# Altium footprint library Transistors.PcbLib: 6 footprints
Each footprint in its own frame and in the unit in brackets; x right, y up, seen from the top. Pads: shape width x height; smd on the part's side, far side on the other; paste and mask are expansions set on the pad; w line width, h text height; cw(c..) or ccw(c..) is an arc to the next point about the centre after c.
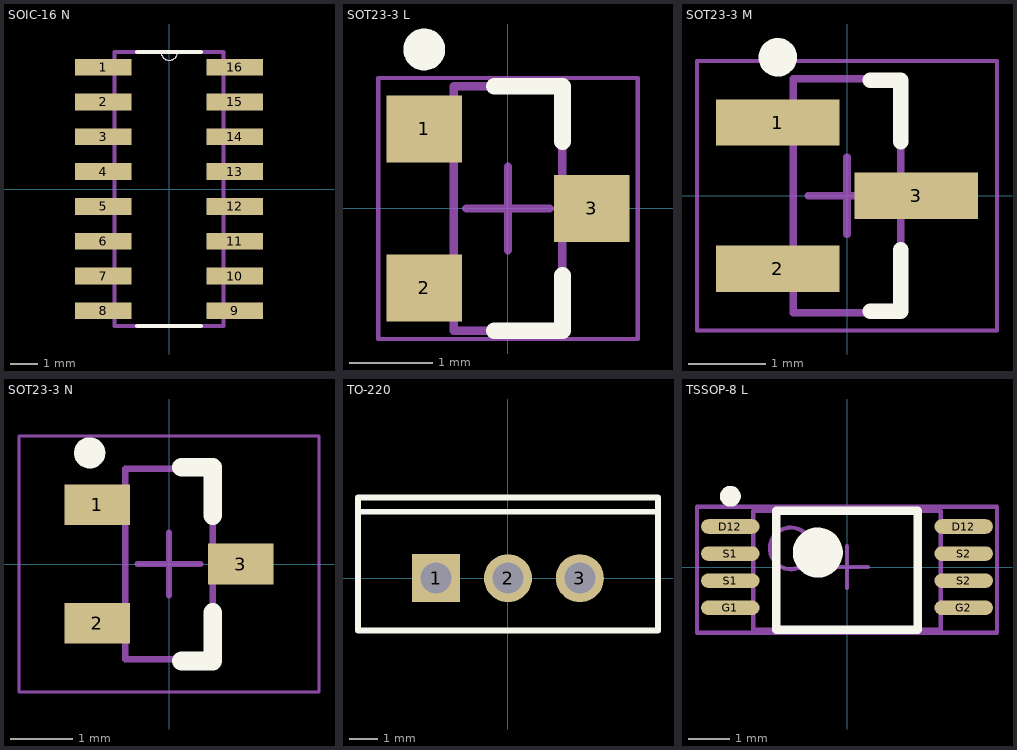
[diagram p0: the footprints below, top view; thin cyan lines are the x and y axes]

## SOIC-16 N [mil]
pads (16):
  rect 81x24 smd paste-1000 mask-1000: 1(-95,175) 2(-95,125) 3(-95,75) 4(-95,25) 5(-95,-25) 6(-95,-75) 7(-95,-125) 8(-95,-175) 9(94,-175) 10(94,-125) 11(94,-75) 12(94,-25) 13(94,25) 14(94,75) 15(94,125) 16(94,175)
Top Overlay:
  lines w0: -12,197 ccw(c0,197) 12,197
  lines w6: -46,-197 45,-197 ; -46,197 -12,197 12,197 45,197
Top Paste:
  region: -135.5,163 -54.5,163 -54.5,187 -135.5,187
  region: -135.5,113 -54.5,113 -54.5,137 -135.5,137
  region: -135.5,63 -54.5,63 -54.5,87 -135.5,87
  region: -135.5,13 -54.5,13 -54.5,37 -135.5,37
  region: -135.5,-37 -54.5,-37 -54.5,-13 -135.5,-13
  region: -135.5,-87 -54.5,-87 -54.5,-63 -135.5,-63
  region: -135.5,-137 -54.5,-137 -54.5,-113 -135.5,-113
  region: -135.5,-187 -54.5,-187 -54.5,-163 -135.5,-163
  region: 53.5,-187 134.5,-187 134.5,-163 53.5,-163
  region: 53.5,-137 134.5,-137 134.5,-113 53.5,-113
  region: 53.5,-87 134.5,-87 134.5,-63 53.5,-63
  region: 53.5,-37 134.5,-37 134.5,-13 53.5,-13
  region: 53.5,13 134.5,13 134.5,37 53.5,37
  region: 53.5,63 134.5,63 134.5,87 53.5,87
  region: 53.5,113 134.5,113 134.5,137 53.5,137
  region: 53.5,163 134.5,163 134.5,187 53.5,187
Top Solder:
  region: -139.44,159.06 -50.56,159.06 -50.56,190.94 -139.44,190.94
  region: -139.44,109.06 -50.56,109.06 -50.56,140.94 -139.44,140.94
  region: -139.44,59.06 -50.56,59.06 -50.56,90.94 -139.44,90.94
  region: -139.44,9.06 -50.56,9.06 -50.56,40.94 -139.44,40.94
  region: -139.44,-40.94 -50.56,-40.94 -50.56,-9.06 -139.44,-9.06
  region: -139.44,-90.94 -50.56,-90.94 -50.56,-59.06 -139.44,-59.06
  region: -139.44,-140.94 -50.56,-140.94 -50.56,-109.06 -139.44,-109.06
  region: -139.44,-190.94 -50.56,-190.94 -50.56,-159.06 -139.44,-159.06
  region: 49.56,-190.94 138.44,-190.94 138.44,-159.06 49.56,-159.06
  region: 49.56,-140.94 138.44,-140.94 138.44,-109.06 49.56,-109.06
  region: 49.56,-90.94 138.44,-90.94 138.44,-59.06 49.56,-59.06
  region: 49.56,-40.94 138.44,-40.94 138.44,-9.06 49.56,-9.06
  region: 49.56,9.06 138.44,9.06 138.44,40.94 49.56,40.94
  region: 49.56,59.06 138.44,59.06 138.44,90.94 49.56,90.94
  region: 49.56,109.06 138.44,109.06 138.44,140.94 49.56,140.94
  region: 49.56,159.06 138.44,159.06 138.44,190.94 49.56,190.94
Mechanical 1:
  lines w0: -12,197 ccw(c0,197) 12,197
  lines w6: -95,-175 -79,-175 ; -95,-125 -79,-125 ; -95,-75 -79,-75 ; -95,-25 -79,-25 ; -95,25 -79,25 ; -95,75 -79,75 ; -95,125 -79,125 ; -95,175 -79,175 ; 78,-175 94,-175 ; 78,-125 94,-125 ; 78,-75 94,-75 ; 78,-25 94,-25 ; 78,25 94,25 ; 78,75 94,75 ; 78,125 94,125 ; 78,175 94,175 ; -79,-197 78,-197 78,197 12,197 -12,197 -79,197 -79,-197
3D body "User Library-SOIC-16.step": height 55.14, standoff -0.02, extent -118.11,-194.88 118.12,194.88

## SOT23-3 L [mm] "SOT23, 3-Leads, Body 2.92x1.3mm, Pitch 0.95mm"
height 1.11
pads (3):
  rect 0.9x0.8 smd: 1(-1,0.95) 2(-1,-0.95) 3(1,0)
Top Overlay:
  circle w0.25: c-1,1.9 r0.125
  lines w0.2: -0.165,-1.46 0.65,-1.46 0.65,-0.8 ; -0.165,1.46 0.65,1.46 0.65,0.8
Mechanical 13:
  lines w0.1: -0.65,-1.46 0.65,-1.46 0.65,1.46 -0.65,1.46 -0.65,-1.46
Mechanical 15:
  lines w0.05: -1.55,-1.56 1.55,-1.56 1.55,1.56 -1.55,1.56 -1.55,-1.56
  lines w0.1: -0.5,0 0.5,0 ; 0,-0.5 0,0.5
3D body "CircuitWorks-SOT-23.step": height 1.11, standoff 0.01, extent -1.25,-1.5 1.25,1.5

## SOT23-3 M [mm] "SOT23, 3-Leads, Body 2.92x2.37mm, Pitch 0.95mm, IPC Medium Density"
height 1.12
pads (3):
  rect 1.6x0.6 smd: 1(-0.9,0.95) 2(-0.9,-0.95) 3(0.9,0)
Top Overlay:
  circle w0.25: c-0.9,1.8 r0.125
  lines w0.2: 0.3,-1.5 0.7,-1.5 0.7,-0.7 ; 0.3,1.5 0.7,1.5 0.7,0.7
Mechanical 13:
  lines w0.1: -0.7,-1.52 -0.7,1.52 0.7,1.52 0.7,-1.52 -0.7,-1.52
Mechanical 15:
  lines w0.05: -1.95,-1.75 -1.95,1.75 1.95,1.75 1.95,-1.75 -1.95,-1.75
  lines w0.1: -0.5,0 0.5,0 ; 0,-0.5 0,0.5
3D body "CircuitWorks-SOT-23.step": height 1.11, standoff 0.01, extent -1.25,-1.5 1.25,1.5

## SOT23-3 N [mm] "MCP1700T-3302E/TT"
height 1.12
pads (3):
  rect 1.05x0.65 smd: 1(-1.15,0.95) 2(-1.15,-0.95) 3(1.15,0)
Top Overlay:
  circle w0.25: c-1.27,1.778 r0.125
  lines w0.3: 0.2,-1.55 0.7,-1.55 0.7,-0.775 ; 0.2,1.55 0.7,1.55 0.7,0.775
Mechanical 13:
  lines w0.1: -0.7,-1.525 0.7,-1.525 0.7,1.525 -0.7,1.525 -0.7,-1.525
Mechanical 15:
  lines w0.05: -2.4,-2.05 2.4,-2.05 2.4,2.05 -2.4,2.05 -2.4,-2.05
  lines w0.1: -0.5,0 0.5,0 ; 0,-0.5 0,0.5
3D body "CircuitWorks-SOT-23.step": height 1.11, standoff 0.01, extent -1.123,-1.5 1.377,1.5

## TO-220 [mm] "TO, Thru-Hole, Vertical, Heatsink Mounted; 3 In-Line Leads; Pitch 2.54 mm"
height 21.4
pads (3):
  rect 1.7x1.7 hole 1.1: 1(-2.54,0)
  round 1.7 hole 1.1: 2(0,0) 3(2.54,0)
Top Overlay:
  lines w0.2: -5.3,2.35 5.3,2.35 ; -5.3,-1.85 5.3,-1.85 5.3,2.85 -5.3,2.85 -5.3,-1.85
3D body "TO-220 3pins long V1.stp": height 25.46, standoff -4.53, extent -5.942,-1.75 5.942,2.65

## TSSOP-8 L [mm] "TSOP, 8-Leads, Body 6.5x4.4mm, Pitch 0.65mm, IPC High Density"
height 0.8
pads (8):
  oval 1.4x0.35 smd: D12(-2.8,0.975) D12(2.8,0.975) G1(-2.8,-0.975) G2(2.8,-0.975) S1(-2.8,-0.325) S1(-2.8,0.325) S2(2.8,-0.325) S2(2.8,0.325)
Top Overlay:
  circle w0.6: c-0.7,0.35 r0.3
  circle w0.25: c-2.8,1.7 r0.125
  lines w0.2: -1.7,-1.5 1.7,-1.5 1.7,1.35 -1.7,1.35 -1.7,-1.5
Mechanical 13:
  circle w0.1: c-1.35,0.45 r0.5
  lines w0.1: -2.25,-1.5 2.25,-1.5 2.25,1.35 -2.25,1.35 -2.25,-1.5
Mechanical 15:
  lines w0.1: -0.5,0 0.5,0 ; 0,-0.5 0,0.5 ; -3.6,-1.575 3.6,-1.575 3.6,1.45 -3.6,1.45 -3.6,-1.575
3D body "User Library-tsop8.step": height 1.2, standoff 0, extent -3.2,-1.55 3.2,1.55